# EAGLE library part DM163 (library Itead-IC)
ICP004
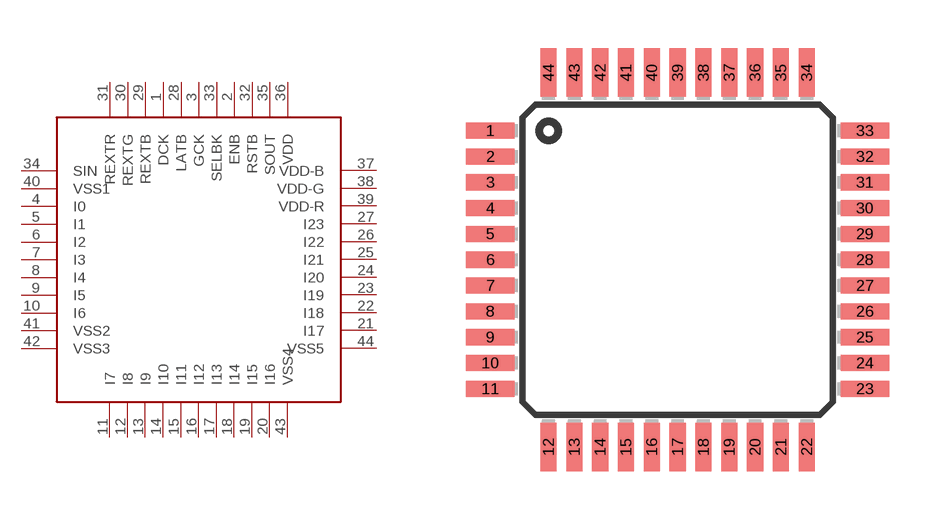
[diagram p13: symbol with the pads of TQFP44; footprint TQFP44]

Designator prefix U

## DM163  [TQFP44]
1  DCK
2  ENB
3  GCK
4  I0
5  I1
6  I2
7  I3
8  I4
9  I5
10  I6
11  I7
12  I8
13  I9
14  I10
15  I11
16  I12
17  I13
18  I14
19  I15
20  I16
21  I17
22  I18
23  I19
24  I20
25  I21
26  I22
27  I23
28  LATB
29  REXTB
30  REXTG
31  REXTR
32  RSTB
33  SELBK
34  SIN
35  SOUT
36  VDD
37  VDD-B
38  VDD-G
39  VDD-R
40  VSS1
41  VSS2
42  VSS3
43  VSS4
44  VSS5

## Footprint TQFP44 (pad centres in mm)
Thin Quad Flat Pack package type TQ
smd 1.5 x 0.5: 1 -5.8,4; 2 -5.8,3.2; 3 -5.8,2.4; 4 -5.8,1.6; 5 -5.8,0.8; 6 -5.8,0; 7 -5.8,-0.8; 8 -5.8,-1.6; 9 -5.8,-2.4; 10 -5.8,-3.2; 11 -5.8,-4; 23 5.8,-4; 24 5.8,-3.2; 25 5.8,-2.4; 26 5.8,-1.6; 27 5.8,-0.8; 28 5.8,0; 29 5.8,0.8; 30 5.8,1.6; 31 5.8,2.4; 32 5.8,3.2; 33 5.8,4
smd 0.5 x 1.5: 12 -4,-5.8; 13 -3.2,-5.8; 14 -2.4,-5.8; 15 -1.6,-5.8; 16 -0.8,-5.8; 17 0,-5.8; 18 0.8,-5.8; 19 1.6,-5.8; 20 2.4,-5.8; 21 3.2,-5.8; 22 4,-5.8; 34 4,5.8; 35 3.2,5.8; 36 2.4,5.8; 37 1.6,5.8; 38 0.8,5.8; 39 0,5.8; 40 -0.8,5.8; 41 -1.6,5.8; 42 -2.4,5.8; 43 -3.2,5.8; 44 -4,5.8